# Altium schematic symbol library LituLib.SchLib: 68 symbols
Pins are listed as number, name and electrical type; pins without a type are passive.

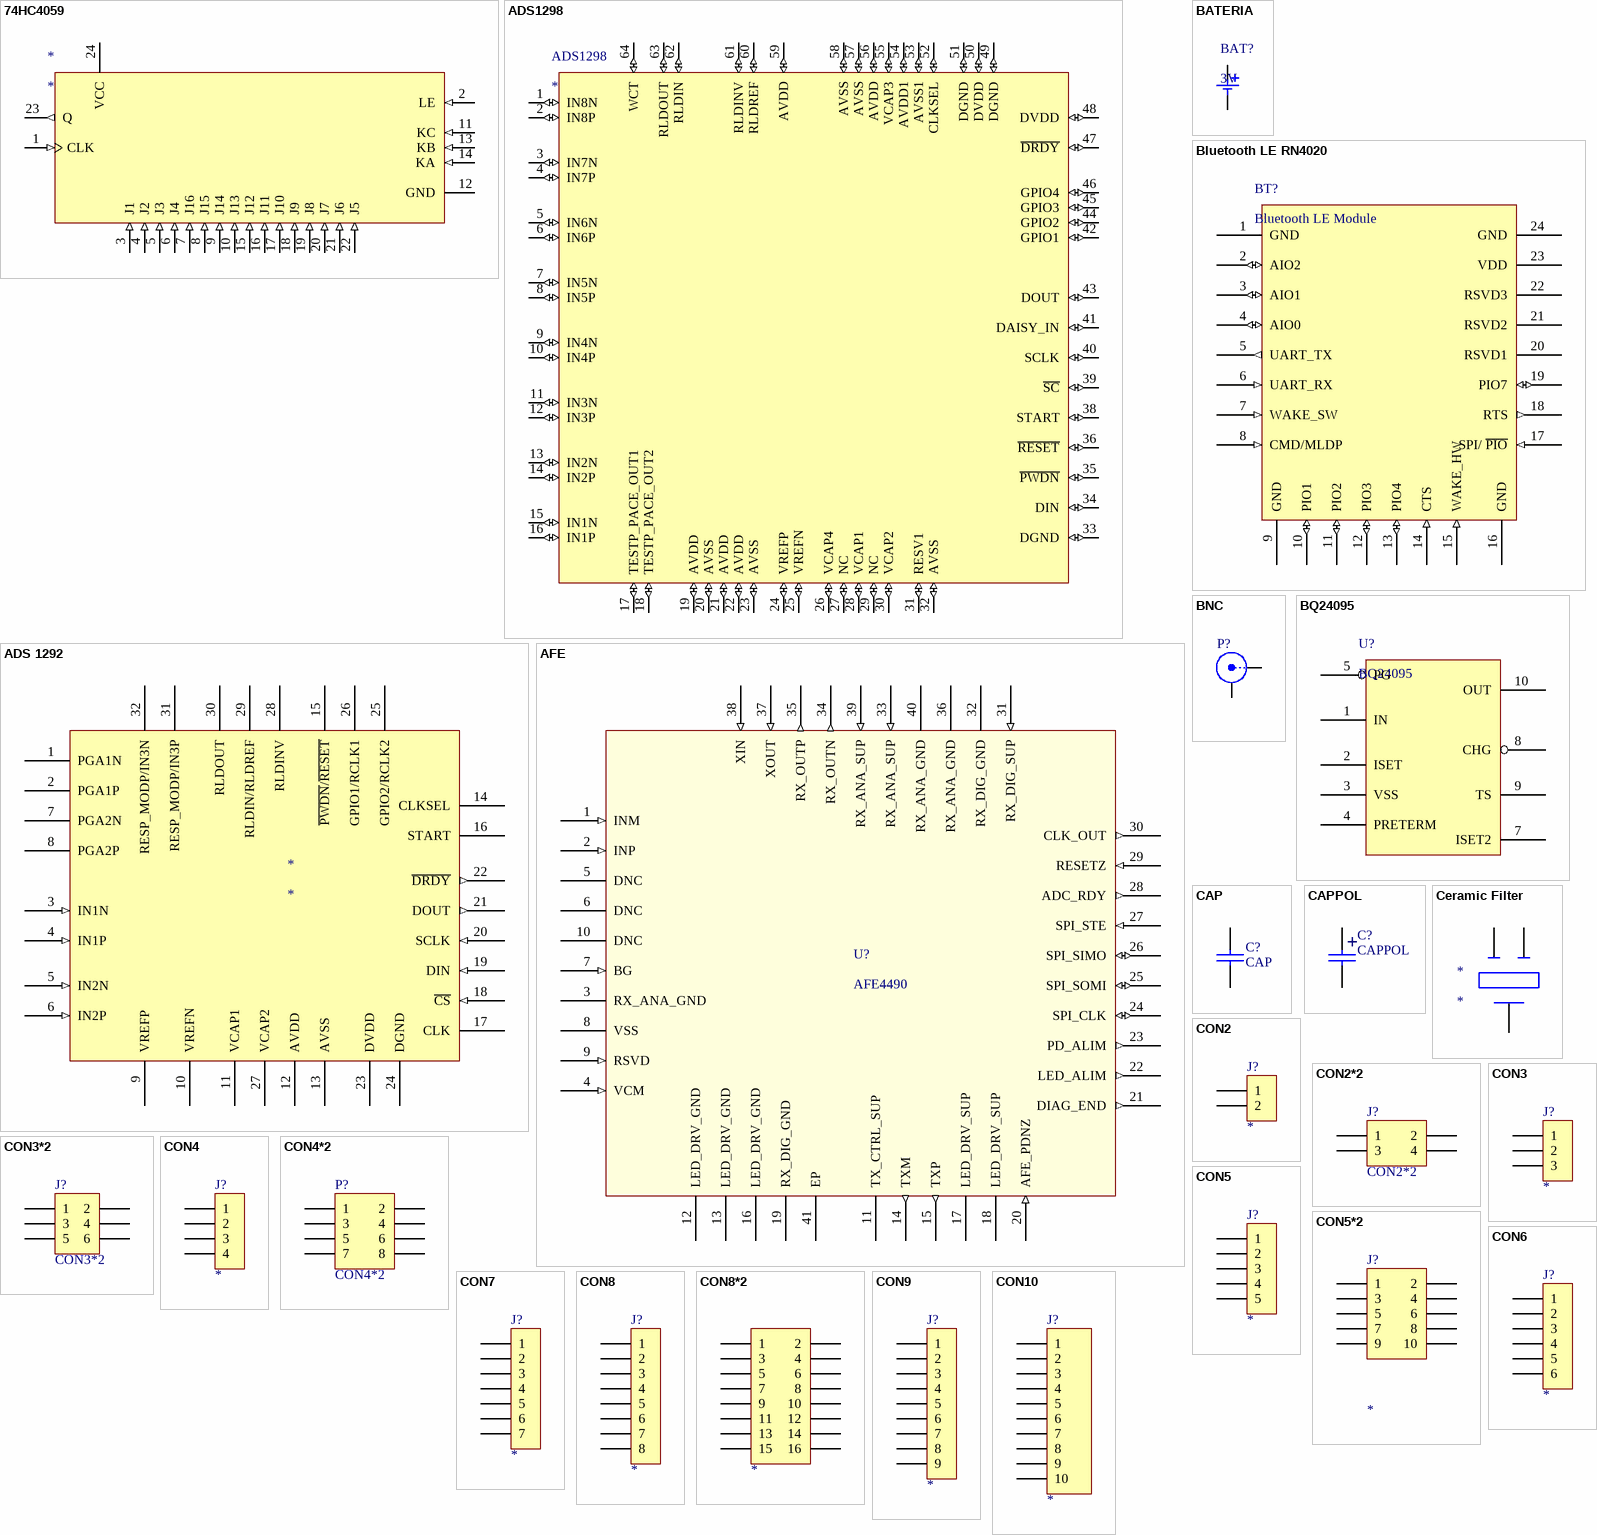
[diagram p0: symbols 74HC4059 to CON10]

## 74HC4059
designator *
footprint PDIP24 (DIP; 24 Leads; Row Spacing 7.62 mm; Pitch 2.54 mm)
footprint SOIC24
pins: 1 CLK (in), 2 LE (in), 3 J1 (in), 4 J2 (in), 5 J3 (in), 6 J4 (in), 7 J16 (in), 8 J15 (in), 9 J14 (in), 10 J13 (in), 11 KC (in), 12 GND (power), 13 KB (in), 14 KA (in), 15 J12 (in), 16 J11 (in), 17 J10 (in), 18 J9 (in), 19 J8 (in), 20 J7 (in), 21 J6 (in), 22 J5 (in), 23 Q (out), 24 VCC (power)

## ADS1298
designator ADS1298
footprint PAG64
pins: 1 IN8N (io) "Mono differential output", 2 IN8P (io) "Mono differential output", 3 IN7N (io) "Audio left line output", 4 IN7P (io) "Audio right line output", 5 IN6N (io) "Headphone amplifier left output", 6 IN6P (io) "Headphone amplifier right output", 7 IN5N (io) "X-position input", 8 IN5P (io) "Y-position input", 9 IN4N (io) "X+ position input", 10 IN4P (io) "Y+ position input", 11 IN3N (io) "X+ position input", 12 IN3P (io) "Y+ position input", 13 IN2N (io) "X+ position input", 14 IN2P (io) "Y+ position input", 15 IN1N (io) "X+ position input", 16 IN1P (io) "Y+ position input", 17 TESTP_PACE_OUT1 (io) "Audio codec negative reference voltage", 18 TESTP_PACE_OUT2 (io) "Audio codec negative reference voltage", 19 AVDD (io) "Audio codec negative reference voltage", 20 AVSS (io) "Audio codec negative reference voltage", 21 AVDD (io) "Audio codec negative reference voltage", 22 AVDD (io) "Audio codec negative reference voltage", 23 AVSS (io) "Audio codec negative reference voltage", 24 VREFP (io) "Audio codec negative reference voltage", 25 VREFN (io) "Audio codec negative reference voltage", 26 VCAP4 (io) "Audio codec negative reference voltage", 27 NC (io) "Audio codec negative reference voltage", 28 VCAP1 (io) "Audio codec negative reference voltage", 29 NC (io) "Audio codec negative reference voltage", 30 VCAP2 (io) "Audio codec negative reference voltage", 31 RESV1 (io) "Audio codec negative reference voltage", 32 AVSS (io) "Audio codec negative reference voltage", 33 DGND (io) "Device reset (active high)", 34 DIN (io) "Device reset (active high)", 35 ~{PWDN} (io) "Device reset (active high)", 36 ~{RESET} (io) "Device reset (active high)", 38 START (io) "Device reset (active high)", 39 ~{SC} (io) "Device reset (active high)", 40 SCLK (io) "Device reset (active high)", 41 DAISY_IN (io) "Device reset (active high)", 42 GPIO1 (io) "Device reset (active high)", 43 DOUT (io) "Device reset (active high)", 44 GPIO2 (io) "Device reset (active high)", 45 GPIO3 (io) "Device reset (active high)", 46 GPIO4 (io) "Device reset (active high)", 47 ~{DRDY} (io) "Device reset (active high)", 48 DVDD (io) "Device reset (active high)", 49 DGND (io) "Common-mode voltage bypass capacitor", 50 DVDD (io) "Common-mode voltage bypass capacitor", 51 DGND (io) "Common-mode voltage bypass capacitor", 52 CLKSEL (io) "Common-mode voltage bypass capacitor", 53 AVSS1 (io) "Common-mode voltage bypass capacitor", 54 AVDD1 (io) "Common-mode voltage bypass capacitor", 55 VCAP3 (io) "Common-mode voltage bypass capacitor", 56 AVDD (io) "Common-mode voltage bypass capacitor", 57 AVSS (io) "Common-mode voltage bypass capacitor", 58 AVSS (io) "Common-mode voltage bypass capacitor", 59 AVDD (io) "Common-mode voltage bypass capacitor", 60 RLDREF (io) "Right-channel audio ADC antialiasing filter capacitor", 61 RLDINV (io) "Left-channel audio ADC antialiasing filter capacitor", 62 RLDIN (io) "Digital voltage supply", 63 RLDOUT (io) "Analog supply", 64 WCT (io) "Analog supply for headphone amplifier and touch screen circuitry"

## ADS 1292
designator *
footprint PBS32_M (32-Pin Thin Plastic Quad Flat Pack 0.5 mm Pitch, IPC Low Density)
pins: 1 PGA1N, 2 PGA1P, 3 IN1N (in), 4 IN1P (in), 5 IN2N (in), 6 IN2P (in), 7 PGA2N, 8 PGA2P, 9 VREFP, 10 VREFN, 11 VCAP1, 12 AVDD, 13 AVSS, 14 CLKSEL, 15 ~{PWDN}/~{RESET}, 16 START, 17 CLK, 18 ~{CS} (in), 19 DIN (in), 20 SCLK (in), 21 DOUT (out), 22 ~{DRDY} (out), 23 DVDD, 24 DGND, 25 GPIO2/RCLK2, 26 GPIO1/RCLK1, 27 VCAP2, 28 RLDINV, 29 RLDIN/RLDREF, 30 RLDOUT, 31 RESP_MODP/IN3P, 32 RESP_MODP/IN3N

## AFE
designator U?, comment AFE4490
Integrated Analog Front End for Pulse Oximeters
footprint QFN50P600X600-40V2L (QFN, 40-Leads, Body 6x6mm, Pitch 0.5mm, IPC High Density)
pins: 1 INM (in), 2 INP (in), 3 RX_ANA_GND, 4 VCM (in), 5 DNC, 6 DNC, 7 BG (in), 8 VSS, 9 RSVD (in), 10 DNC, 11 TX_CTRL_SUP, 12 LED_DRV_GND, 13 LED_DRV_GND, 14 TXM (out), 15 TXP (out), 16 LED_DRV_GND, 17 LED_DRV_SUP, 18 LED_DRV_SUP, 19 RX_DIG_GND, 20 AFE_PDNZ (in), 21 DIAG_END (out), 22 LED_ALIM (out), 23 PD_ALIM (out), 24 SPI_CLK (io), 25 SPI_SOMI (io), 26 SPI_SIMO (io), 27 SPI_STE (in), 28 ADC_RDY (out), 29 RESETZ (in), 30 CLK_OUT (out), 31 RX_DIG_SUP (in), 32 RX_DIG_GND, 33 RX_ANA_SUP (in), 34 RX_OUTN (out), 35 RX_OUTP (out), 36 RX_ANA_GND, 37 XOUT (in), 38 XIN (in), 39 RX_ANA_SUP (in), 40 RX_ANA_GND, 41 EP

## BATERIA
designator BAT?, comment 3V
BATERIA
footprint CR2032
pins: 1, 2

## Bluetooth LE RN4020
designator BT?, comment Bluetooth LE Module
footprint RN4020 (Bluetooth Module)
pins: 1 GND, 2 AIO2 (io), 3 AIO1 (io), 4 AIO0 (io), 5 UART_TX (out), 6 UART_RX (in), 7 WAKE_SW (in), 8 CMD/MLDP (in), 9 GND, 10 PIO1 (io), 11 PIO2 (io), 12 PIO3 (io), 13 PIO4 (io), 14 CTS (in), 15 WAKE_HW (in), 16 GND, 17 SPI/ ~{PIO} (in), 18 RTS (out), 19 PIO7 (io), 20 RSVD1, 21 RSVD2, 22 RSVD3, 23 VDD, 24 GND

## BNC
designator P?
BNC Elbow Connector; LatestRevisionDate: 17-Jul-2002; LatestRevisionNote: Re-released for DXP Platform.; Publisher: Altium Limited
footprint BNC_RA CON (Connector; BNC Elbow)
signal-integrity model Connector
pins: 1 X, 2 Y

## BQ24095
designator U?
1A,  Single-Input,  Single  Cell  Li-Ion  and  Li-Pol  Battery  Charger
footprint MSOP10 (MSOP10 - 0.5mm pitch)
pins: 1 IN, 2 ISET, 3 VSS, 4 PRETERM, 5 PG, 7 ISET2, 8 CHG, 9 TS, 10 OUT

## CAP
designator C?
footprint 0805 (Pasivo 0805)
footprint 1206 (Pasivo 1206)
footprint 0603 (Footprint not found)
footprint CAP200
footprint CAP100
footprint CAP0.2
pins: 1, 2

## CAPPOL
designator C?
footprint CAP100RP
footprint CAP200RP
footprint CAP100RP2 (Footprint not found)
footprint CAP200RP2 (Body Diameter 12.5mm)
footprint CAP300RP
footprint 1206 (Pasivo 1206)
footprint CAP_SMD (Capacitor de 6.3x5.8)
pins: 1, 2
text: +

## Ceramic Filter
designator *
footprint Ceramic Filter
pins: 1 OSC2, 2 OSC2, 3 OSC1

## CON2
designator J?
footprint SIP2
footprint SIP2 90
footprint CR2032
pins: 1, 2

## CON2*2
designator J?
LatestRevisionDate: 17-Jul-2002; LatestRevisionNote: Re-released for DXP Platform.; Publisher: Altium Limited
signal-integrity model Connector
footprint SIP2*2
pins: 1, 2, 3, 4

## CON3
designator J?
footprint SIP3
footprint SIP3 90
pins: 1, 2, 3

## CON3*2
designator J?
footprint SIP3*2 (Footprint not found)
footprint SIP3*2 90
pins: 1, 2, 3, 4, 5, 6

## CON4
designator J?
footprint SIP4
footprint SIP4 90
pins: 1, 2, 3, 4

## CON4*2
designator P?
Header, 4-Pin, Dual row; LatestRevisionDate: 17-Jul-2002; LatestRevisionNote: Re-released for DXP Platform.; Publisher: Altium Limited
signal-integrity model Connector
footprint SIP4*2
footprint SIP4*2 90
pins: 1, 2, 3, 4, 5, 6, 7, 8

## CON5
designator J?
footprint SIP5
footprint SIP5 90
pins: 1, 2, 3, 4, 5

## CON5*2
designator J?
footprint SIP5*2
pins: 1, 2, 3, 4, 5, 6, 7, 8, 9, 10

## CON6
designator J?
footprint SIP6
footprint SIP6 90
pins: 1, 2, 3, 4, 5, 6

## CON7
designator J?
footprint SIP7
footprint SIP7 90
pins: 1, 2, 3, 4, 5, 6, 7

## CON8
designator J?
footprint SIP8
footprint SIP8 90
pins: 1, 2, 3, 4, 5, 6, 7, 8

## CON8*2
designator ?
footprint SIP8*2
pins: 1, 2, 3, 4, 5, 6, 7, 8, 9, 10, 11, 12, 13, 14, 15, 16

## CON9
designator J?
footprint SIP9
footprint SIP9 90
pins: 1, 2, 3, 4, 5, 6, 7, 8, 9

## CON10
designator J?
footprint SIP10
footprint SIP10 90
pins: 1, 2, 3, 4, 5, 6, 7, 8, 9, 10

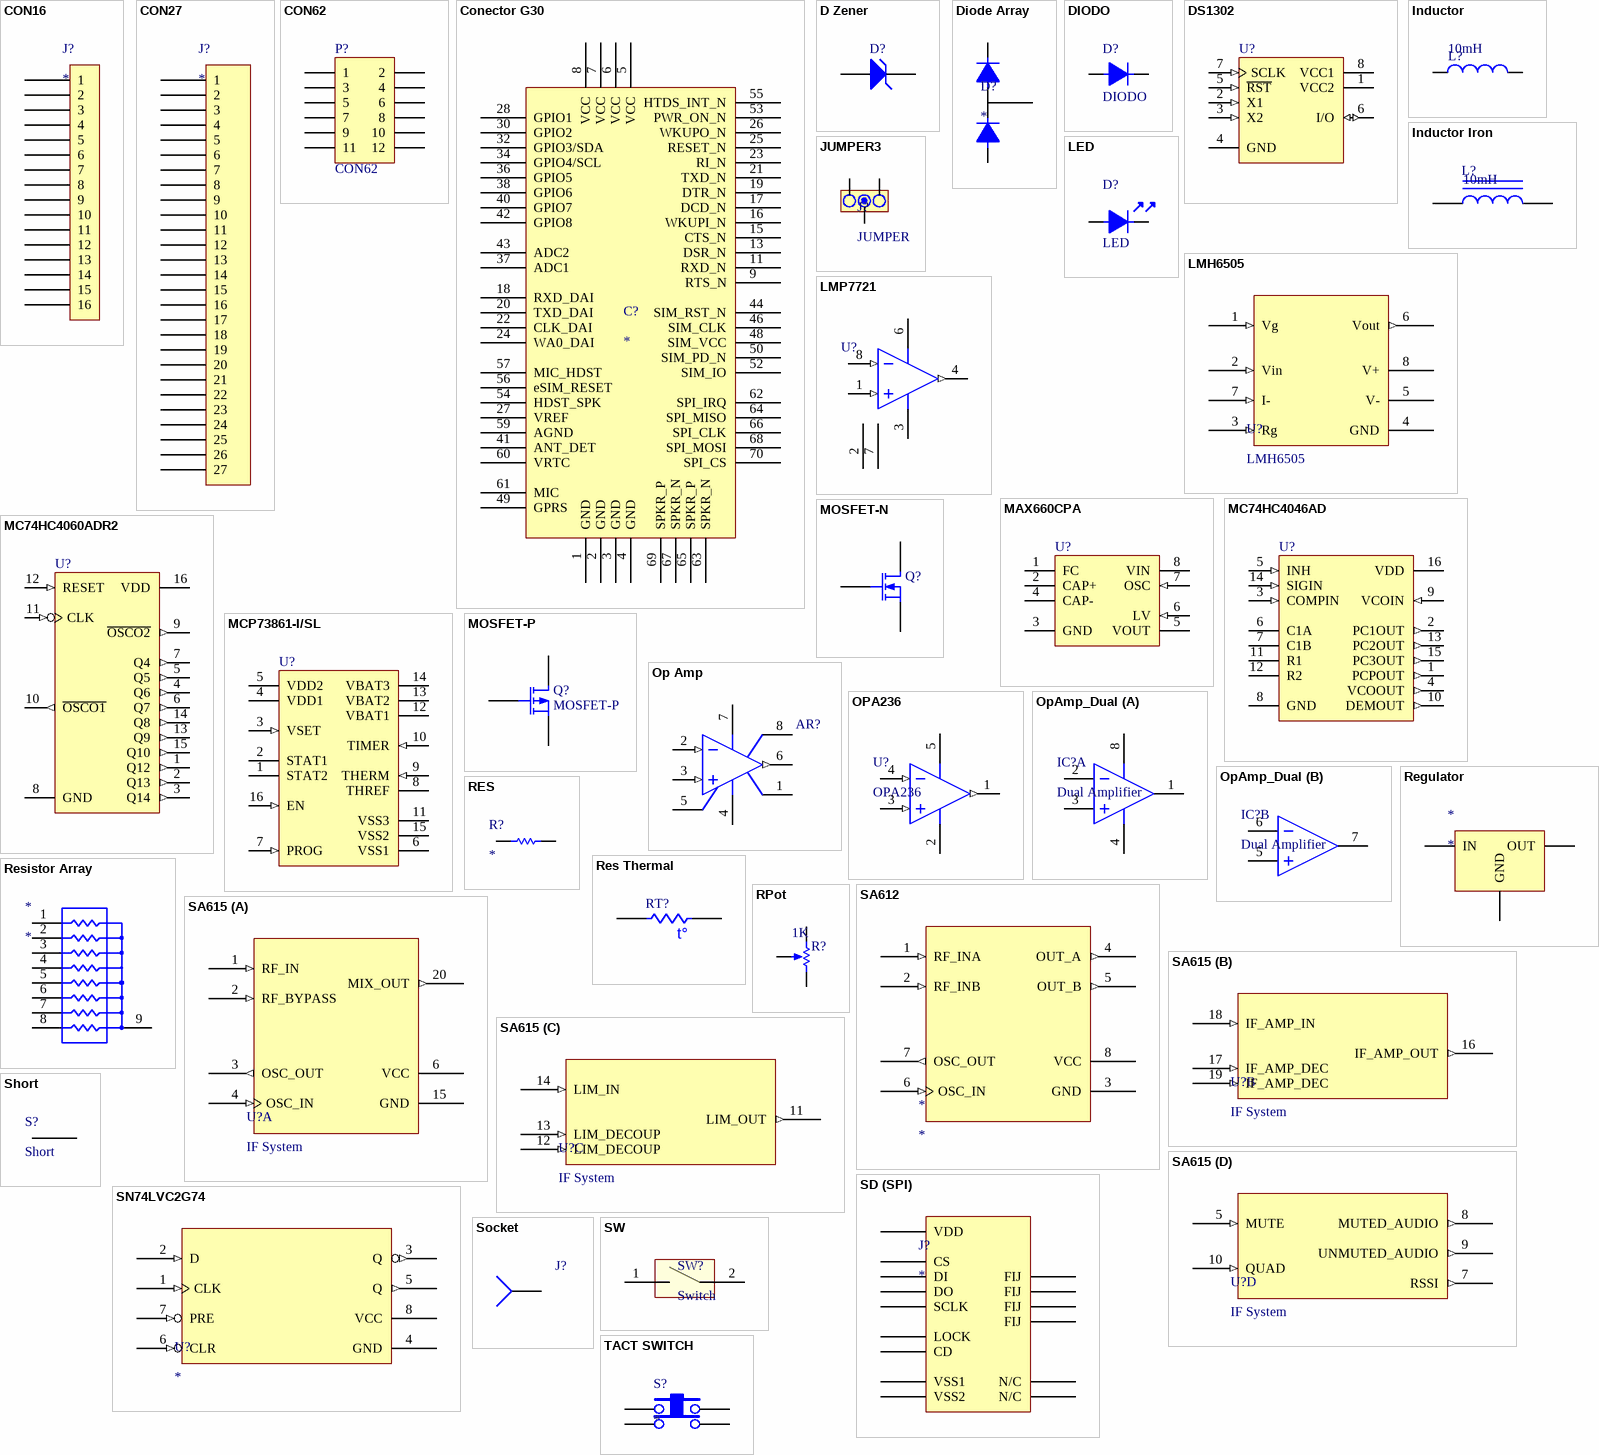
[diagram p1: symbols CON16 to TACT SWITCH]

## CON16
designator J?
footprint SIP16
pins: 1, 2, 3, 4, 5, 6, 7, 8, 9, 10, 11, 12, 13, 14, 15, 16

## CON27
designator J?
footprint SIP27
footprint SIP27 90
pins: 1, 2, 3, 4, 5, 6, 7, 8, 9, 10, 11, 12, 13, 14, 15, 16, 17, 18, 19, 20, 21, 22, 23, 24, 25, 26, 27

## CON62
designator P?
Header, 6-Pin, Dual row; LatestRevisionDate: 17-Jul-2002; LatestRevisionNote: Re-released for DXP Platform.; Publisher: Altium Limited
signal-integrity model Connector
footprint SIP6*2
pins: 1, 2, 3, 4, 5, 6, 7, 8, 9, 10, 11, 12

## Conector G30
designator C?
footprint Conector 70 pin PCB-PCB
pins: 1 GND, 2 GND, 3 GND, 4 GND, 5 VCC, 6 VCC, 7 VCC, 8 VCC, 9 RTS_N, 10 NC hidden, 11 RXD_N, 12 NC hidden, 13 DSR_N, 14 NC hidden, 15 CTS_N, 16 WKUPI_N, 17 DCD_N, 18 RXD_DAI, 19 DTR_N, 20 TXD_DAI, 21 TXD_N, 22 CLK_DAI, 23 RI_N, 24 WA0_DAI, 25 RESET_N, 26 WKUPO_N, 27 VREF, 28 GPIO1, 29 NC hidden, 30 GPIO2, 31 NC hidden, 32 GPIO3/SDA, 33 NC hidden, 34 GPIO4/SCL, 35 NC hidden, 36 GPIO5, 37 ADC1, 38 GPIO6, 39 NC hidden, 40 GPIO7, 41 ANT_DET, 42 GPIO8, 43 ADC2, 44 SIM_RST_N, 45 NC hidden, 46 SIM_CLK, 47 NC hidden, 48 SIM_VCC, 49 GPRS, 50 SIM_PD_N, 51 NC hidden, 52 SIM_IO, 53 PWR_ON_N, 54 HDST_SPK, 55 HTDS_INT_N, 56 eSIM_RESET, 57 MIC_HDST, 58 NC hidden, 59 AGND, 60 VRTC, 61 MIC, 62 SPI_IRQ, 63 SPKR_N, 64 SPI_MISO, 65 SPKR_P, 66 SPI_CLK, 67 SPKR_N, 68 SPI_MOSI, 69 SPKR_P, 70 SPI_CS

## D Zener
designator D?
Zener Diode; Published: 8-Jun-2000; LatestRevisionDate: 17-Jul-2002; LatestRevisionNote: Re-released for DXP Platform.; PackageReference: DIODE-0.7; Publisher: Altium Limited; PackageDescription: Diode, Thru-Hole; 2 Leads; 0.7 in Pin Spacing
footprint DIODE-0.7 (Diode, Thru-Hole; 2 Leads; 0.7 in Pin Spacing)
simulation model ZENER (Diode)
signal-integrity model D Zener
pins: 1 A, 2 K

## Diode Array
designator D?
BAV99
footprint SOT23
pins: 1, 2, 3

## DIODO
designator D?
footprint SMAK
footprint 1206K
footprint DO41
footprint SMBK
footprint SMCK
footprint DO-35 (Diode, Axial; Body 3.8 x 1.9 mm (LxDia. max), Lead Dia. 0.53 mm (max))
footprint DO-214AC (JEDEC DO214 variation AC. SMA)
pins: 1, 2

## DS1302
designator U?
Trickle Charge Timekeeping Chip; Published: 13-Oct-2000; LatestRevisionDate: 06-Jun-2005; LatestRevisionNote: Stylized 3D Model Added.; DatasheetVersion: 2-Jul-1999; PackageVersion: 1999; PackageReference: DIP8; Publisher: Altium Limited; PackageDescription: DIP; 8 Leads; Row Spacing 7.62 mm; Pitch 2.54 mm; ComponentLink1Description: Manufacturer Link; ComponentLink1URL: http://www.maxim-ic.com/; ComponentLink2Description: Datasheet; ComponentLink2URL: http://pdfserv.maxim-ic.com/en/ds/DS1302.pdf
footprint DIP8
3D model DIP8 (DIP; 8 Leads; Row Spacing 7.62 mm; Pitch 2.54 mm)
pins: 1 VCC2 (power), 2 X1 (in), 3 X2 (in), 4 GND (power), 5 ~{RST} (in), 6 I/O (io), 7 SCLK (in), 8 VCC1 (power)

## Inductor
designator L?  value 10mH
Inductor; Code_IEC: 1005; Published: 8-Jun-2000; LatestRevisionDate: 29-May-2009; LatestRevisionNote: IPC-7351 Footprint Added.; PackageReference: 0402-A; Publisher: Altium Limited; PackageDescription: Chip Inductor; Code_JEITA: 0402
footprint INDC1608L (Chip Inductor, Body 1.6x0.8mm, IPC High Density)
footprint 2029 (Chip Inductor, Body 2.0x1.2mm, IPC High Density)
footprint 0603 (Chip Inductor, Body 0.6x0.3mm, IPC High Density)
footprint INDC3216 (Chip Inductor, Body 3.2x1.6mm, IPC High Density)
footprint INDC4532 (Chip Inductor, Body 4.5x3.2mm, IPC High Density)
simulation model INDUCTOR (Inductor)
signal-integrity model Inductor
footprint IND400
footprint 1210
footprint RES300
pins: 1, 2

## Inductor Iron
designator L?  value 10mH
Magnetic-Core Inductor; Published: 24-Mar-1999; LatestRevisionDate: 17-Jul-2002; LatestRevisionNote: Re-released for DXP Platform.; PackageReference: AXIAL-0.9; Publisher: Altium Limited
footprint AXIAL-0.9 (Axial Device, Thru-Hole; 2 Leads; 0.9 in Pin Spacing)
simulation model INDUCTOR (Inductor)
signal-integrity model Inductor Iron
footprint 0805 (Pasivo 0805)
footprint 1206 (Pasivo 1206)
pins: 1, 2

## JUMPER3
designator J?, comment JUMPER
footprint JUMPER3
pins: 1, 2, 3

## LED
designator D?
footprint LED3
footprint LED5
footprint LED1206
footprint LED0805 (LED SMD 0805)
pins: 1, 2

## LMH6505
designator U?
Variable Gain Amplifier, Liner in dB
footprint SOIC8
pins: 1 Vg (in), 2 Vin (in), 3 Rg (in), 4 GND, 5 V-, 6 Vout (out), 7 I- (in), 8 V+

## LMP7721
designator U?  (value not drawn)
Low Input Bias Current Precision Amplifier
footprint SOIC8
pins: 1 IN+ (in), 2 Guard, 3 V- (power), 4 OUT (out), 6 V+ (power), 7 Guard, 8 IN- (in)

## MAX660CPA
designator U?
CMOS Monolithic Voltage Converter; Published: 16-Jan-2001; LatestRevisionDate: 29-May-2009; LatestRevisionNote: Component Body Added.; DatasheetVersion: Sep-1996; PackageVersion: RevB, 21-0043; PackageReference: PA8; Publisher: Altium Limited; PackageDescription: DIP, 8-Pin, Row Spacing 7.62 mm, Pitch 2.54 mm; Code_JEDEC: MS-001-AB; ComponentLink1Description: Manufacturer Link; ComponentLink1URL: http://www.maxim-ic.com/; ComponentLink2Description: Datasheet; ComponentLink2URL: http://pdfserv.maxim-ic.com/en/ds/MAX660.pdf
footprint DIP8
3D model PA8 (DIP, 8-Pin, Row Spacing 7.62 mm, Pitch 2.54 mm)
pins: 1 FC, 2 CAP+, 3 GND (power), 4 CAP-, 5 VOUT (power), 6 LV (in), 7 OSC (in), 8 VIN (power)

## MC74HC4046AD
designator U?
Phase Locked Loop with VCO; Published: 15-Apr-2002; LatestRevisionDate: 13-Apr-2006; LatestRevisionNote: IPC-7351 Footprint Added.; DatasheetVersion: Mar-2000; PackageVersion: Oct-1999; PackageReference: 751B-05; Publisher: Altium Limited; PackageDescription: 16-Pin Small Outline Integrated Circuit 1.27 mm Pitch; Code_JEDEC: MS-012-AC; Code_IPC: SOIC127P600-16; ComponentLink1Description: Manufacturer Link; ComponentLink1URL: http://www.onsemi.com/; ComponentLink2Description: Datasheet; ComponentLink2URL: http://www.onsemi.com/pub/Collateral/MC74HC4046A-D.PDF
signal-integrity model MC74HC4046AD
footprint DIP-16 (DIP; 16 Leads; Row Spacing 7.62 mm; Pitch 2.54 mm)
footprint SOIC-SL16_N (SOIC, 16-Leads, Body 9.9x3.9mm, Pitch 1.27mm, IPC Medium Density)
pins: 1 PCPOUT (out), 2 PC1OUT (out), 3 COMPIN (in), 4 VCOOUT (out), 5 INH (in), 6 C1A, 7 C1B, 8 GND (power), 9 VCOIN (in), 10 DEMOUT (out), 11 R1, 12 R2, 13 PC2OUT (out), 14 SIGIN (in), 15 PC3OUT (out), 16 VDD (power)

## MC74HC4060ADR2
designator U?
14-Stage Binary Ripple Counter with Oscillator; Published: 15-Apr-2002; LatestRevisionDate: 13-Apr-2006; LatestRevisionNote: IPC-7351 Footprint Added.; DatasheetVersion: Mar-2000; PackageVersion: Oct-1999; PackageReference: 751B-05; Publisher: Altium Limited; PackageDescription: 16-Pin Small Outline Integrated Circuit 1.27 mm Pitch; Code_JEDEC: MS-012-AC; Code_IPC: SOIC127P600-16; ComponentLink1Description: Manufacturer Link; ComponentLink1URL: http://www.onsemi.com/; ComponentLink2Description: Datasheet; ComponentLink2URL: http://www.onsemi.com/pub/Collateral/MC74HC4060A-D.PDF
signal-integrity model MC74HC4060ADR2
footprint DIP-16 (DIP; 16 Leads; Row Spacing 7.62 mm; Pitch 2.54 mm)
footprint SOIC-SL16_M (SOIC, 16-Leads, Body 9.9x3.9mm, Pitch 1.27mm, IPC Low Density)
pins: 1 Q12 (out), 2 Q13 (out), 3 Q14 (out), 4 Q6 (out), 5 Q5 (out), 6 Q7 (out), 7 Q4 (out), 8 GND (power), 9 ~{OSCO2} (out), 10 ~{OSCO1} (out), 11 CLK (in), 12 RESET (in), 13 Q9 (out), 14 Q8 (out), 15 Q10 (out), 16 VDD (power)

## MCP73861-I/SL
designator U?
Single-Cell Li-Ion/Li-Polymer Charge Management Controller with Temperature Monitor, 4.1V, 16-Pin SOIC 150mil, Industrial Temperature; FirstPublished: 29-Jan-2009; LatestRevisionDate: 27-Nov-2009; LatestRevisionNote: Updated to datasheet revision D, Dec-2008; DatasheetVersion: revD, Dec-2008; PackageVersion: revBB, Aug-2009; PackageReference: SOIC-SL16; Publisher: Altium Limited; PackageDescription: 16-Lead Plastic Small Outline (SL) - Narrow, 3.90mm Body [SOIC]; Supplier 1: Digi-Key; Supplier Part Number 1: MCP73861-I/SL-ND; Supplier 2: Farnell; Supplier Part Number 2: 1439478; Supplier 3: Newark; Supplier Part Number 3: 42M2329; Code_JEDEC: MS-012-AC; Code_IPC: SOIC127P600-16; ComponentLink1Description: Datasheet; ComponentLink1URL: http://ww1.microchip.com/downloads/en/DeviceDoc/21893d.pdf; ComponentLink2Description: Packaging Specification; ComponentLink2URL: http://www.microchip.com/stellent/groups/techpub_sg/documents/packagingspec/en012702.pdf; ComponentLink3Description: Microchip.com Home; ComponentLink3URL: http://www.microchip.com/
footprint SOIC-SL16_N (SOIC, 16-Leads, Body 9.9x3.9mm, Pitch 1.27mm, IPC Medium Density)
footprint SOIC-SL16_M (SOIC, 16-Leads, Body 9.9x3.9mm, Pitch 1.27mm, IPC Low Density)
pins: 1 STAT2 (oc), 2 STAT1 (oc), 3 VSET (in), 4 VDD1 (power), 5 VDD2 (power), 6 VSS1 (power), 7 PROG (in), 8 THREF (power), 9 THERM (in), 10 TIMER (in), 11 VSS3 (power), 12 VBAT1 (power), 13 VBAT2 (power), 14 VBAT3 (power), 15 VSS2 (power), 16 EN (in)

## MOSFET-N
designator Q?
N-Channel MOSFET; Published: 8-Jun-2000; LatestRevisionDate: 17-Jul-2002; LatestRevisionNote: Re-released for DXP Platform.; PackageVersion: 1995/1996; PackageReference: E3; Publisher: Altium Limited; PackageDescription: TO, Flat Index; 3 In-Line, Axial Leads; Body Dia. 4.6mm; Lead Dia. 0.5 mm (max)
footprint E3 (TO, Flat Index; 3 In-Line, Axial Leads; Body Dia. 4.6mm; Lead Dia. 0.5 mm (max))
simulation model NMOS (MOSFET-N)
pins: 1 D, 2 G, 3 S

## MOSFET-P
designator Q?
P-Channel MOSFET; Published: 8-Jun-2000; LatestRevisionDate: 17-Jul-2002; LatestRevisionNote: Re-released for DXP Platform.; PackageVersion: 1995/1996; PackageReference: E3; Publisher: Altium Limited; PackageDescription: TO, Flat Index; 3 In-Line, Axial Leads; Body Dia. 4.6mm; Lead Dia. 0.5 mm (max)
footprint E3 (TO, Flat Index; 3 In-Line, Axial Leads; Body Dia. 4.6mm; Lead Dia. 0.5 mm (max))
simulation model PMOS (MOSFET-P)
footprint SOT23
footprint TO92
pins: 1 D, 2 G, 3 S

## Op Amp
designator AR?
FET Operational Amplifier; Published: 8-Jun-2000; LatestRevisionDate: 17-Jul-2002; LatestRevisionNote: Re-released for DXP Platform.; DatasheetVersion: REV. B; PackageVersion: 1990; PackageReference: H-08A; Publisher: Altium Limited; PackageDescription: Can; 8 Leads; Pin Circle Dia. 5.08 mm; Lead Dia. 0.53 mm (max); ComponentLink1Description: Manufacturer Link; ComponentLink1URL: http://www.analog.com/
footprint H-08A (Can; 8 Leads; Pin Circle Dia. 5.08 mm; Lead Dia. 0.53 mm (max))
simulation model AD645A (Spice Subcircuit)
footprint SOIC8
footprint DIP8
pins: 1 OS NUL, 2 IN- (in), 3 IN+ (in), 4 V- (power), 5 OS NUL, 6 OUT (out), 7 V+ (power), 8 TAB

## OPA236
designator U?
Micro  Power CMOS operational amplifier
footprint SOT23-5 (SOT-23/SC-74A; 5 Leads; Body 3 x 3 mm, inc. leads (LxW max))
pins: 1 OUT (out), 2 V- (power), 3 IN+ (in), 4 IN- (in), 5 V+ (power)

## OpAmp_Dual
designator IC?, comment Dual Amplifier
LM833
footprint SOIC8
footprint DIP8
part A pins: 1 OUT, 2 IN-, 3 IN+, 4 VSS (power), 8 VDD (power)
part B pins: 5 IN+, 6 IN-, 7 OUT

## Regulator
designator *
footprint SOT23
footprint TO92
pins: 1 GND, 2 OUT, 3 IN

## RES
designator R?
footprint 0805 (Pasivo 0805)
footprint RES400
footprint RES300
footprint 1206 (Pasivo 1206)
footprint Model Name (Footprint not found)
footprint 0603 (Pasivo 0603)
pins: 1, 2

## Res Thermal
designator RT?
Thermistor; Published: 24-Mar-1999; LatestRevisionDate: 29-May-2009; LatestRevisionNote: IPC-7351 Footprint Added.; PackageVersion: Mar-2003; PackageReference: 6-0805; Publisher: Altium Limited; PackageDescription: Chip Resistor 0805 Case Size; Code_IPC: RESC2012
footprint SIP2
pins: 1, 2
text: t°

## Resistor Array
designator *
footprint Resistor Array 8 (Array de resistores de 9 terminales)
pins: 1, 2, 3, 4, 5, 6, 7, 8, 9

## RPot
designator R?  value 1K
Potentiometer; Sim Note: Enter the Resistance value and the set point into parameter fields.; Set Position: 0.5; Published: 8-Jun-2000; LatestRevisionDate: 17-Jul-2002; LatestRevisionNote: Re-released for DXP Platform.; PackageReference: VR5; Publisher: Altium Limited
footprint PRESET V
simulation model POT (Potentiometer)
pins: 1 TOP, 2 BOT, 3 TAP
1 alternate drawing of the same symbol

## SA612
designator *
footprint SO8
pins: 1 RF_INA (in), 2 RF_INB (in), 3 GND, 4 OUT_A (out), 5 OUT_B (out), 6 OSC_IN (in), 7 OSC_OUT (out), 8 VCC

## SA615
designator U?, comment IF System
footprint SO-20 (20-Pin Plastic Small Outline Integrated Circuit 1.27 mm Pitch, IPC Low Density)
part A pins: 1 RF_IN (in), 2 RF_BYPASS (in), 3 OSC_OUT (out), 4 OSC_IN (in), 6 VCC, 15 GND, 20 MIX_OUT (out)
part B pins: 16 IF_AMP_OUT (out), 17 IF_AMP_DEC (in), 18 IF_AMP_IN (in), 19 IF_AMP_DEC (in)
part C pins: 11 LIM_OUT (out), 12 LIM_DECOUP (in), 13 LIM_DECOUP (in), 14 LIM_IN (in)
part D pins: 5 MUTE (in), 7 RSSI (out), 8 MUTED_AUDIO (out), 9 UNMUTED_AUDIO (out), 10 QUAD (in)

## SD (SPI)
designator J?
SD Card Socket
footprint SD SOCKET
pins: 1 CS, 2 DI, 3 VSS1, 4 VDD, 5 SCLK, 6 VSS2, 7 DO, 8 N/C hidden, 9 N/C hidden, 10 CD, 11 LOCK, 12 FIJ, 13 FIJ, 14 FIJ, 15 FIJ

## Short
designator S?  (net tie, no BOM)
Corto, Une 2 pads en el toplayer
footprint Short
pins: 1, 2

## SN74LVC2G74
designator U?
Flip-Flop D
footprint SSOP8 (SSOP, Plastic; 8 Leads; Body Width 5.3 mm; Pitch 0.65 mm)
pins: 1 CLK (in), 2 D (in), 3 Q (out), 4 GND, 5 Q (out), 6 CLR (in), 7 PRE (in), 8 VCC

## Socket
designator J?
Socket; LatestRevisionDate: 17-Jul-2002; LatestRevisionNote: Re-released for DXP Platform.; Publisher: Altium Limited
footprint PIN1 (Connector; Socket)
signal-integrity model Connector
footprint PIN1 (Connector; Plug)
pins: 1

## SW
designator SW?, comment Switch
Part Number: *
pins: 1, 2

## TACT SWITCH
designator S?
footprint TACTSWITCH
pins: 1, 2, 3, 4

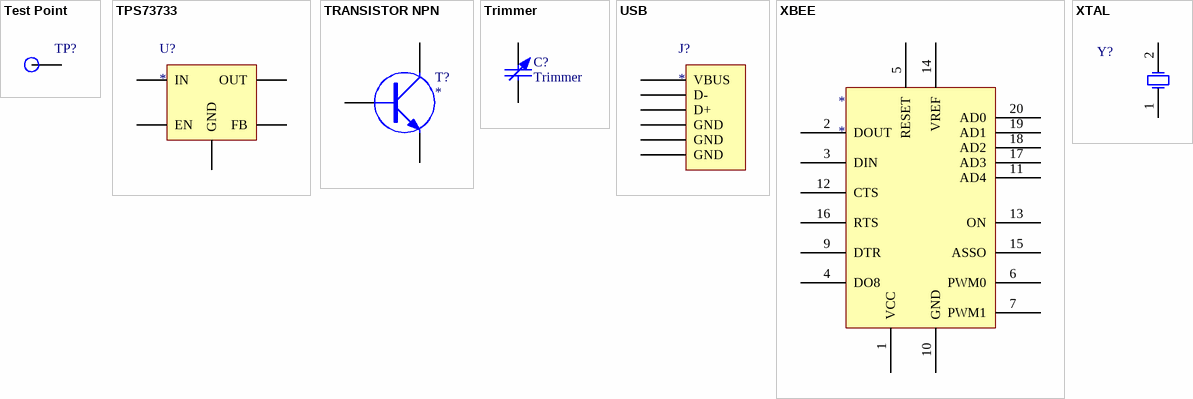
[diagram p2: symbols Test Point to XTAL]

## Test Point
designator TP?, comment TP  (value not drawn)
Test Point
footprint PIN1 (Connector; Plug)
pins: 1

## TPS73733
designator U?
Low-Dropout Regulator
footprint TPS73733
pins: 1 IN, 2 OUT, 3 GND, 4 FB, 5 EN

## TRANSISTOR NPN
designator T?
footprint SOT23
footprint TO92
pins: 1 B, 2 E, 3 C

## Trimmer
designator C?
footprint Trimmer (Capacitive Trimmer)
footprint Trimmer Cap SMD
pins: 1, 2

## USB
designator J?
footprint USBB-S-X-X-TH
footprint USB_Micro-B_USB
pins: 1 VBUS, 2 D-, 3 D+, 4 GND, 5 GND, 6 GND

## XBEE
designator *
footprint XBEE
pins: 1 VCC, 2 DOUT, 3 DIN, 4 DO8, 5 RESET, 6 PWM0, 7 PWM1, 8 NC hidden, 9 DTR, 10 GND, 11 AD4, 12 CTS, 13 ON, 14 VREF, 15 ASSO, 16 RTS, 17 AD3, 18 AD2, 19 AD1, 20 AD0

## XTAL
designator Y?
Crystal Oscillator; Published: 8-Jun-2000; LatestRevisionDate: 17-Jul-2002; LatestRevisionNote: Re-released for DXP Platform.; PackageReference: R38; Publisher: Altium Limited; PackageDescription: Crystal, Thru-Hole; 2 Leads; Body 3.1 x 8.2 mm (Dia.xH)
simulation model XTAL (Spice Subcircuit)
footprint CRISTAL CILINDRICO
footprint CRISTAL PERFIL
footprint Cristal SMD
footprint Cristal SMD/TH
pins: 1 OSC1, 2 OSC2